# EAGLE library part DIGILENT_CMOD_A7 (library df4iah_fpga)
DIGILENT Cmod A7 XILINX Artix 7 board in DIP48 form factor
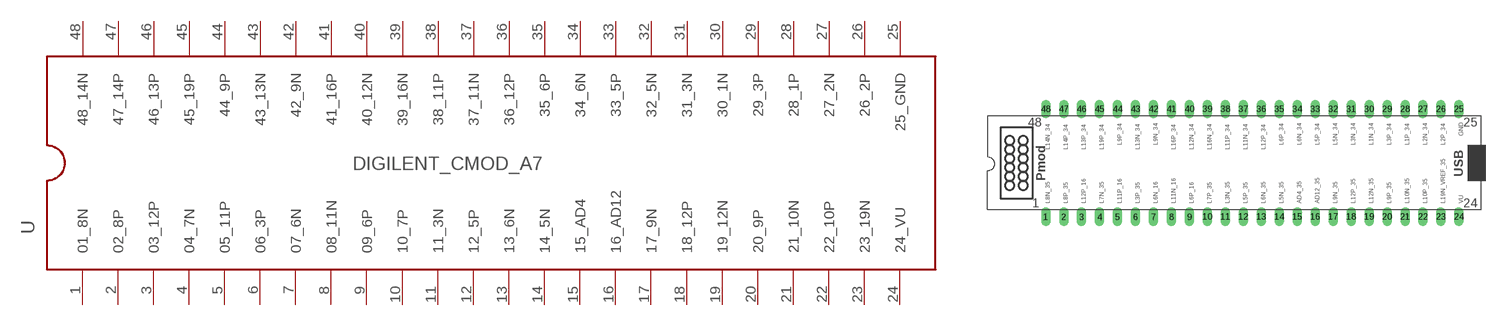
[diagram p1: symbol with the pads of DIGILENT_CMOD_A7__DIP48; footprint DIGILENT_CMOD_A7__DIP48]

Designator prefix U

## DIGILENT_CMOD_A7  [DIGILENT_CMOD_A7__DIP48]
1  01_8N
2  02_8P
3  03_12P
4  04_7N
5  05_11P
6  06_3P
7  07_6N
8  08_11N
9  09_6P
10  10_7P
11  11_3N
12  12_5P
13  13_6N
14  14_5N
15  15_AD4
16  16_AD12
17  17_9N
18  18_12P
19  19_12N
20  20_9P
21  21_10N
22  22_10P
23  23_19N
24  24_VU  pwr
25  25_GND  pas
26  26_2P
27  27_2N
28  28_1P
29  29_3P
30  30_1N
31  31_3N
32  32_5N
33  33_5P
34  34_6N
35  35_6P
36  36_12P
37  37_11N
38  38_11P
39  39_16N
40  40_12N
41  41_16P
42  42_9N
43  43_13N
44  44_9P
45  45_19P
46  46_13P
47  47_14P
48  48_14N

## Footprint DIGILENT_CMOD_A7__DIP48 (pad centres in mm)
DIGILENT Cmod A7 XILINX Artix 7 board in DIP48 form factor
drill 0.813 long: 1 -29.21,-7.62; 2 -26.67,-7.62; 3 -24.13,-7.62; 4 -21.59,-7.62; 5 -19.05,-7.62; 6 -16.51,-7.62; 7 -13.97,-7.62; 8 -11.43,-7.62; 9 -8.89,-7.62; 10 -6.35,-7.62; 11 -3.81,-7.62; 12 -1.27,-7.62; 13 1.27,-7.62; 14 3.81,-7.62; 15 6.35,-7.62; 16 8.89,-7.62; 17 11.43,-7.62; 18 13.97,-7.62; 19 16.51,-7.62; 20 19.05,-7.62; 21 21.59,-7.62; 22 24.13,-7.62; 23 26.67,-7.62; 24 29.21,-7.62; 25 29.21,7.62; 26 26.67,7.62; 27 24.13,7.62; 28 21.59,7.62; 29 19.05,7.62; 30 16.51,7.62; 31 13.97,7.62; 32 11.43,7.62; 33 8.89,7.62; 34 6.35,7.62; 35 3.81,7.62; 36 1.27,7.62; 37 -1.27,7.62; 38 -3.81,7.62; 39 -6.35,7.62; 40 -8.89,7.62; 41 -11.43,7.62; 42 -13.97,7.62; 43 -16.51,7.62; 44 -19.05,7.62; 45 -21.59,7.62; 46 -24.13,7.62; 47 -26.67,7.62; 48 -29.21,7.62